# EAGLE library part PGA2311 (library amp)
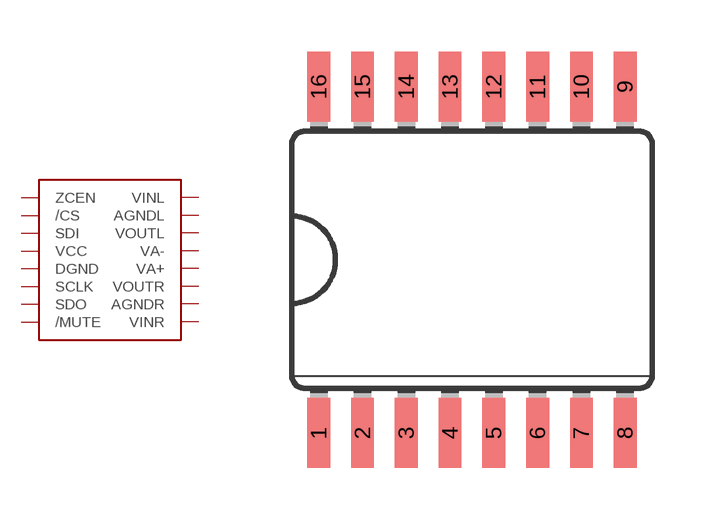
[diagram p6: symbol with the pads of SO16W; footprint SO16W]

Designator prefix U

## PGA2311  [SO16W]
1  ZCEN
2  /CS
3  SDI
4  VCC
5  DGND
6  SCLK
7  SDO
8  /MUTE
9  VINR
10  AGNDR
11  VOUTR
12  VA+
13  VA-
14  VOUTL
15  AGNDL
16  VINL

## Footprint SO16W (pad centres in mm)
Wide Small Outline package 300 mil
smd 0.66 x 2.032: 1 -4.445,-5.029; 2 -3.175,-5.029; 3 -1.905,-5.029; 4 -0.635,-5.029; 5 0.635,-5.029; 6 1.905,-5.029; 7 3.175,-5.029; 8 4.445,-5.029; 9 4.445,5.029; 10 3.175,5.029; 11 1.905,5.029; 12 0.635,5.029; 13 -0.635,5.029; 14 -1.905,5.029; 15 -3.175,5.029; 16 -4.445,5.029